# Altium footprint library ELECTRONIC LOAD.PcbLib: 21 footprints (part 1 of 2)
Each footprint in its own frame and in the unit in brackets; x right, y up, seen from the top. Pads: shape width x height; smd on the part's side, far side on the other; paste and mask are expansions set on the pad; w line width, h text height; cw(c..) or ccw(c..) is an arc to the next point about the centre after c.
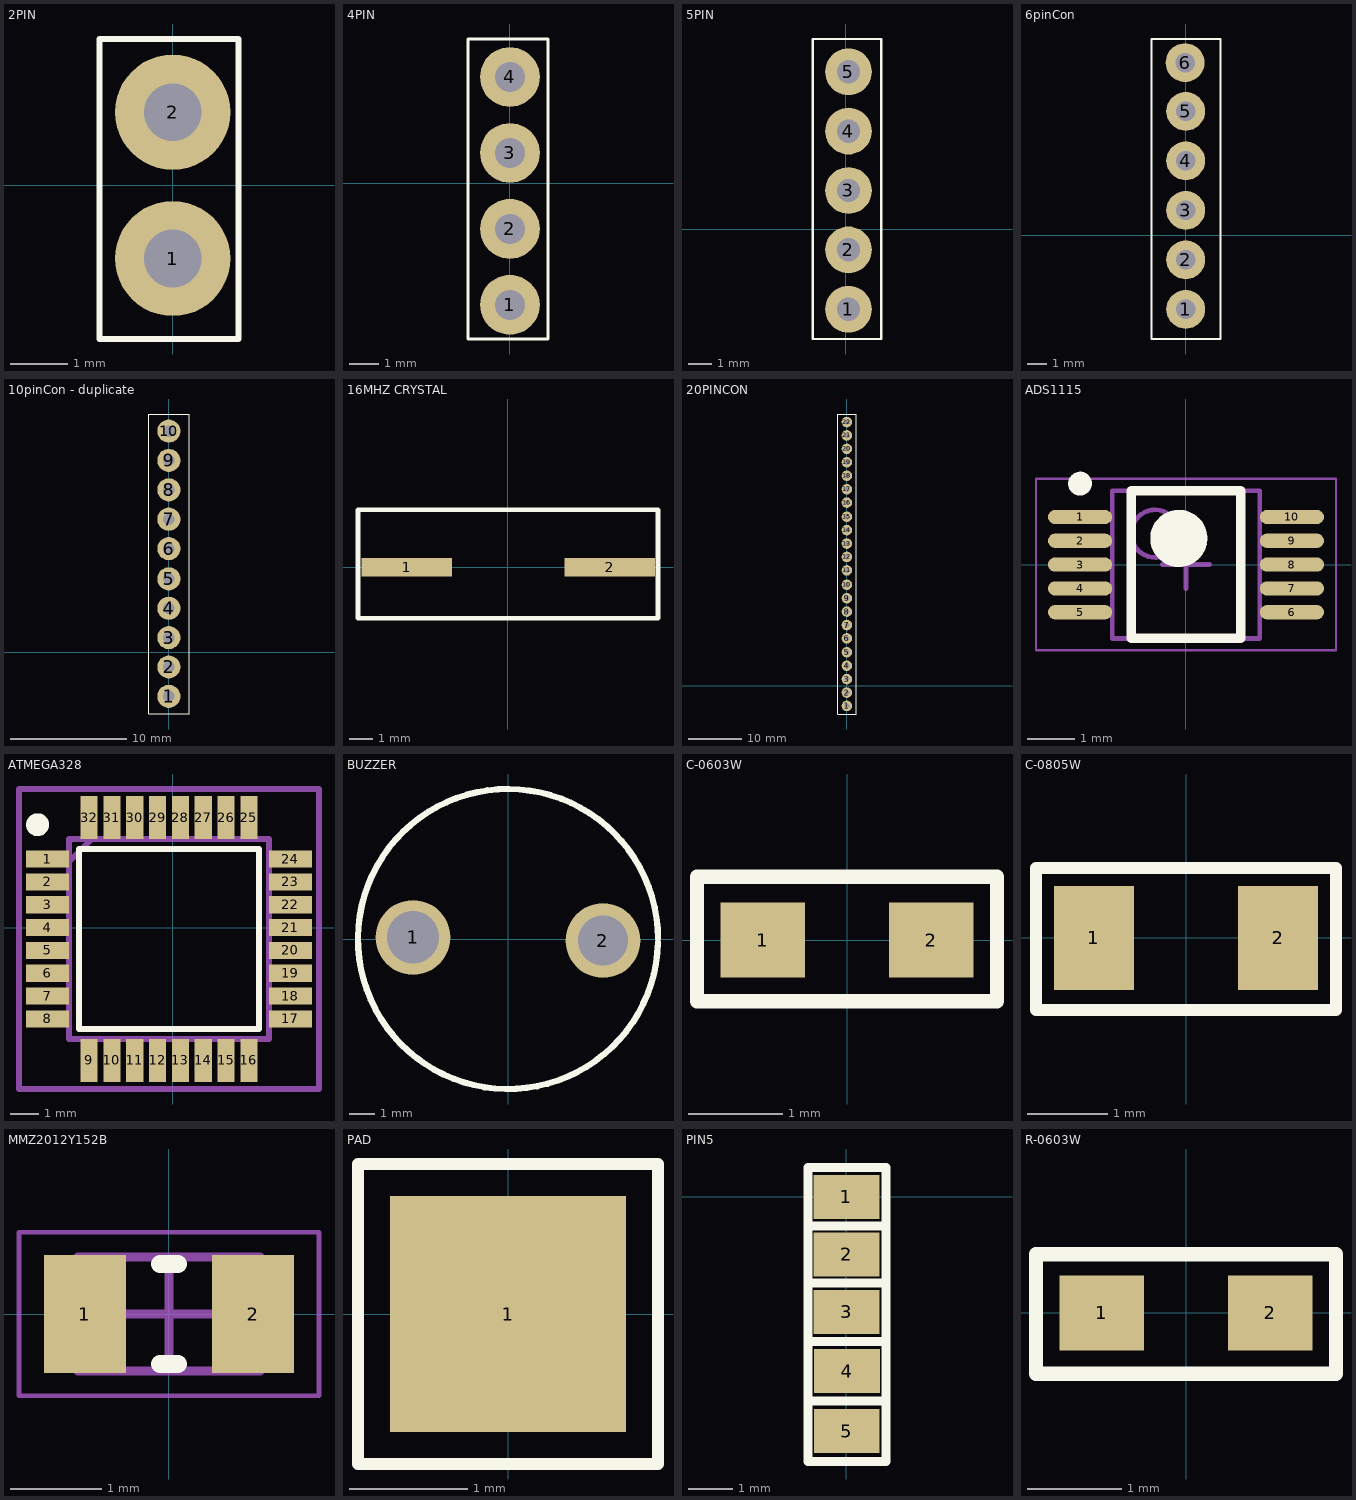
[diagram p0: the footprints below, top view; thin cyan lines are the x and y axes]

## 2PIN [mm]
pads (2):
  round 2 hole 1: 1(0,-1.27) 2(0,1.27)
Top Overlay:
  lines w0.1: -1.27,-2.667 -1.27,2.54 1.143,2.54 1.143,-2.667 -1.27,-2.667

## 4PIN [mm]
pads (4):
  round 2 hole 1: 1(0,-4.064) 2(0,-1.524) 3(0,1.016) 4(0,3.556)
Top Overlay:
  lines w0.1: -1.397,-5.207 -1.397,4.826 1.27,4.826 1.27,-5.207 -1.397,-5.207

## 5PIN [mm]
pads (5):
  round 2 hole 1: 1(0.127,-3.429) 2(0.127,-0.889) 3(0.127,1.651) 4(0.127,4.191) 5(0.127,6.731)
Top Overlay:
  lines w0.1: -1.397,-4.699 -1.397,8.128 1.524,8.128 1.524,-4.699 -1.397,-4.699

## 6pinCon [mm]
pads (6):
  round 2 hole 1: 1(0,-3.81) 2(0,-1.27) 3(0,1.27) 4(0,3.81) 5(0,6.35) 6(-0.033,8.843)
Top Overlay:
  lines w0.1: -1.75,-5.334 -1.75,10.058 1.778,10.058 1.778,-5.334 0.515,-5.334 -0.487,-5.334 -1.75,-5.334

## 10pinCon - duplicate [mm]
pads (10):
  round 2 hole 1: 1(0,-3.81) 2(0,-1.27) 3(0,1.27) 4(0,3.81) 5(0,6.35) 6(0,8.965) 7(0,11.505) 8(0,14.045) 9(0,16.585) 10(0,19.125)
Top Overlay:
  lines w0.1: -1.75,-5.334 -1.75,20.6 1.778,20.6 1.778,-5.334 0.515,-5.334 -0.487,-5.334 -1.75,-5.334

## 16MHZ CRYSTAL [mm]
pads (2):
  rect 3.9x0.8 smd: 1(-4.344,-0.008) 2(4.382,-0.004)
Top Overlay:
  lines w0.203: -6.454,-2.201 -6.454,2.484 6.47,2.484 6.47,-2.201 -6.454,-2.201

## 20PINCON [mm]
pads (22):
  round 2 hole 1: 1(0,-3.81) 2(0,-1.27) 3(0,1.27) 4(0,3.81) 5(0,6.35) 6(0,8.965) 7(0,11.505) 8(0,14.045) 9(0,16.585) 10(0,19.125) 11(0,21.844) 12(0,24.384) 13(0,26.924) 14(0,29.464) 15(0,32.004) 16(0,34.671) 17(0,37.211) 18(0,39.751) 19(0,42.291) 20(0,44.831) 21(0,47.371) 22(0,49.911)
Top Overlay:
  lines w0.1: -1.75,-5.334 -0.487,-5.334 0.515,-5.334 1.778,-5.334 1.778,51.435 -1.75,51.435 -1.75,-5.334

## ADS1115 [mm] "TSSOP, 10-Leads, Body 3,00x3,00mm, Pitch 0,50mm, IPC Medium Density"
height 1.1
pads (10):
  oval 1.35x0.3 smd: 1(-2.225,1) 2(-2.225,0.5) 3(-2.225,0) 4(-2.225,-0.5) 5(-2.225,-1) 6(2.225,-1) 7(2.225,-0.5) 8(2.225,0) 9(2.225,0.5) 10(2.225,1)
Top Overlay:
  circle w0.25: c-2.225,1.7 r0.125
  circle w0.6: c-0.15,0.55 r0.3
  lines w0.2: -1.15,-1.55 -1.15,1.55 1.15,1.55 1.15,-1.55 -1.15,-1.55
Mechanical 13:
  circle w0.1: c-0.65,0.65 r0.5
  lines w0.1: -1.55,-1.55 -1.55,1.55 1.55,1.55 1.55,-1.55 -1.55,-1.55
Mechanical 15:
  lines w0.05: -3.15,-1.8 -3.15,1.8 3.15,1.8 3.15,-1.8 -3.15,-1.8
  lines w0.1: -0.5,0 0.5,0 ; 0,-0.5 0,0.5
3D body "TSSOP50P490X110-10N.step": height 1.1, standoff 0, extent -2.45,-1.55 2.45,1.55

## ATMEGA328 [mm]
pads (32):
  rect 1.5x0.6 smd: 1(-4.377,2.4) 2(-4.377,1.6) 3(-4.377,0.8) 4(-4.377,0) 5(-4.377,-0.8) 6(-4.377,-1.6) 7(-4.377,-2.4) 8(-4.377,-3.2) 17(4.123,-3.2) 18(4.123,-2.4) 19(4.123,-1.6) 20(4.123,-0.8) 21(4.123,0) 22(4.123,0.8) 23(4.123,1.6) 24(4.123,2.4)
  rect 0.6x1.5 smd: 9(-2.927,-4.65) 10(-2.127,-4.65) 11(-1.327,-4.65) 12(-0.527,-4.65) 13(0.273,-4.65) 14(1.073,-4.65) 15(1.873,-4.65) 16(2.673,-4.65) 25(2.673,3.85) 26(1.873,3.85) 27(1.073,3.85) 28(0.273,3.85) 29(-0.527,3.85) 30(-1.327,3.85) 31(-2.127,3.85) 32(-2.927,3.85)
Top Overlay:
  circle w0.4: c-4.727,3.6 r0.2
  lines w0.203: -3.277,-3.55 -3.277,2.75 3.023,2.75 3.023,-3.55 -3.277,-3.55
Mechanical 13:
  lines w0.203: -3.627,2.3 -2.827,3.1 ; -3.627,-3.9 -3.627,3.1 3.373,3.1 3.373,-3.9 -3.627,-3.9
Mechanical 15:
  lines w0.203: -5.377,-5.65 -5.377,4.85 5.123,4.85 5.123,-5.65 -5.377,-5.65
3D body "ATMEGA328-AUR.stp": height 1.2, standoff 0, extent -4.627,-4.9 4.373,4.1

## BUZZER [mm]
pads (2):
  round 3 hole 2.1: 1(-3.81,0.064)
  round 3 hole 2: 2(3.81,-0.064)
Top Overlay:
  lines w0.254: 6.016,-0.131 cw(c0,0) 6.017,0

## C-0603W [mm] "capacitor 0603 wave soldering"
pads (2):
  rect 0.9x0.8 smd: 1(-0.9,0) 2(0.9,0)
Top Overlay:
  lines w0.152: -1.6,-0.65 0.55,-0.65 1.6,-0.65 1.6,0.675 0.525,0.675 -1.6,0.675 -1.6,-0.65
3D body "CAP0603.stp": height 0.3, standoff 0, extent -0.8,-0.4 0.8,0.4

## C-0805W [mm] "capacitor 0805 wave soldering"
pads (2):
  rect 1x1.3 smd: 1(-1.15,0) 2(1.15,0)
Top Overlay:
  lines w0.152: -1.875,-0.9 0.6,-0.9 1.875,-0.9 1.875,0.875 0.6,0.875 -1.875,0.875 -1.875,-0.9
3D body "CAP0805.stp": height 0.78, standoff 0, extent -1,-0.625 1,0.625

## MMZ2012Y152B [mm] "Chip Resistor, 2-Leads, Body 2,00x1,25mm, IPC Medium Density"
height 0.85
pads (2):
  rect 0.9x1.3 smd: 1(-0.925,0) 2(0.925,0)
Top Overlay:
  lines w0.2: -0.1,-0.55 0.1,-0.55 ; -0.1,0.55 0.1,0.55
Mechanical 13:
  lines w0.1: -1,-0.625 -1,0.625 1,0.625 1,-0.625 -1,-0.625
Mechanical 15:
  lines w0.05: -1.65,-0.9 -1.65,0.9 1.65,0.9 1.65,-0.9 -1.65,-0.9
  lines w0.1: -0.5,0 0.5,0 ; 0,-0.5 0,0.5
3D body "RESC2012X08N.step": height 0.85, standoff 0, extent -1,-0.625 1,0.625

## PAD [mm]
pads (1):
  rect 2x2 smd: 1(0,0)
Top Overlay:
  lines w0.1: -1.27,-1.27 -1.27,1.27 1.27,1.27 1.27,-1.27 -1.27,-1.27

## PIN5 [mm]
pads (5):
  rect 1.5x1 smd: 1(0,0) 2(0.003,-1.308) 3(0.003,-2.62) 4(0.013,-3.966) 5(0.008,-5.332)
Top Overlay:
  lines w0.203: -0.88,0.653 -0.88,-0.002 -0.88,-6.025 0.906,-6.025 0.906,0.671 -0.88,0.671 ; -0.878,-1.956 0.893,-1.956 ; -0.868,-3.295 0.899,-3.295 ; -0.861,-0.663 0.89,-0.663 ; -0.833,-4.651 0.884,-4.651

## R-0603W [mm] "resistor 0603 wave soldering"
pads (2):
  rect 0.9x0.8 smd: 1(-0.9,0) 2(0.9,0)
Top Overlay:
  lines w0.152: -1.6,-0.65 -1.6,0.625 0.475,0.625 1.6,0.625 1.6,-0.65 0.5,-0.65 -1.6,-0.65
3D body "res0603.stp": height 0.45, standoff 0, extent -0.8,-0.4 0.8,0.4